# Altium footprint library LED-XTAL.PCBLIB: 105 footprints (part 1 of 7)
Each footprint in its own frame and in the unit in brackets; x right, y up, seen from the top. Pads: shape width x height; smd on the part's side, far side on the other; paste and mask are expansions set on the pad; w line width, h text height; cw(c..) or ccw(c..) is an arc to the next point about the centre after c.
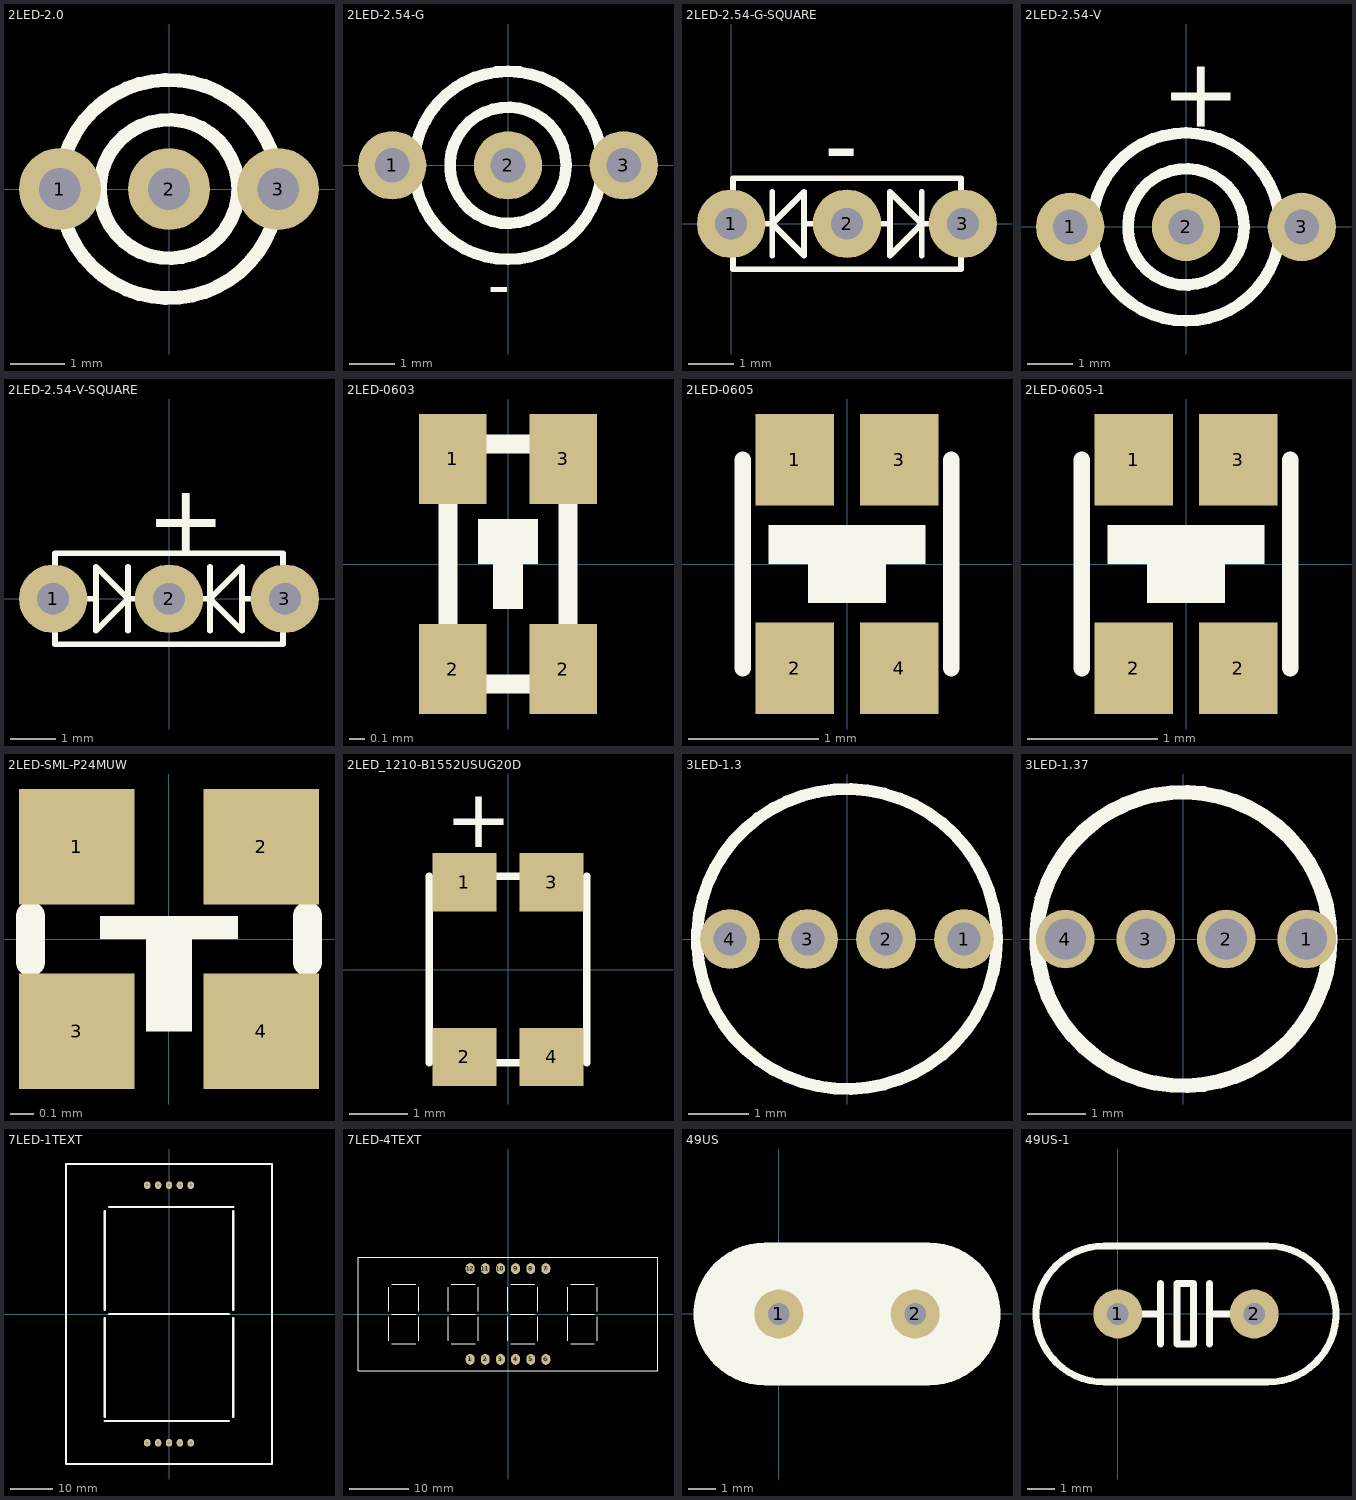
[diagram p0: the footprints below, top view; thin cyan lines are the x and y axes]

## 2LED-2.0 [mm]
pads (3):
  round 1.5 hole 0.762: 1(-2,0) 2(0,0) 3(2,0)
TopOverlay:
  circle w0.254: c0,0 r2
  circle w0.254: c0,0 r1.27
  lines w0.203: -2.54,0 -2.25,0 ; 2.062,0 2.54,0

## 2LED-2.54-G [mm]
pads (3):
  round 1.5 hole 0.762: 1(-2.54,0) 2(0,0) 3(2.54,0)
TopOverlay:
  circle w0.254: c0,0 r1.275
  circle w0.254: c0,0 r2.062
  lines w0.203: -2.54,0 -2.25,0 ; 2.062,0 2.54,0
  text "-" at -0.44,-3.1 h1

## 2LED-2.54-G-SQUARE [mm]
pads (3):
  round 1.5 hole 0.7: 1(0,0) 2(2.54,0) 3(5.08,0)
TopOverlay:
  lines w0.127: 0,0 0.9,0 ; 0.9,-0.7 0.9,0.7 ; 1.6,0 2.54,0 3.48,0 ; 4.18,-0.7 4.18,0.7 ; 5.08,0 4.18,0 ; 0.9,0 1.6,0.7 1.6,-0.7 0.9,0 ; 4.18,0 3.48,0.7 3.48,-0.7 4.18,0 ; 0.04,-1 5.04,-1 5.04,1 0.04,1 0.04,-1
  text "-" at 2.04,1 h1.52

## 2LED-2.54-V [mm]
pads (3):
  round 1.5 hole 0.762: 1(-2.54,0) 2(0,0) 3(2.54,0)
TopOverlay:
  circle w0.254: c0,0 r2.062
  circle w0.254: c0,0 r1.275
  lines w0.203: -2.54,0 -2.25,0 ; 2.062,0 2.54,0
  text "+" at -0.54,2.2 h1.52

## 2LED-2.54-V-SQUARE [mm]
pads (3):
  round 1.5 hole 0.7: 1(-2.54,0) 2(0,0) 3(2.54,0)
TopOverlay:
  lines w0.127: -2.54,0 -1.6,0 ; -0.9,-0.7 -0.9,0.7 ; 0.9,-0.7 0.9,0.7 ; 1.6,0 2.54,0 ; -0.9,0 -1.6,0.7 -1.6,-0.7 -0.9,0 ; -0.9,0 0,0 0.9,0 ; 0.9,0 1.6,0.7 1.6,-0.7 0.9,0 ; -2.5,-1 -2.5,1 2.5,1 2.5,-1 -2.5,-1
  text "+" at -0.5,1 h1.52

## 2LED-0603 [mm] "2LED-0603"
pads (4):
  rect 0.45x0.6 smd: 1(-0.37,0.7) 2(-0.37,-0.7) 2(0.37,-0.7) 3(0.37,0.7)
TopOverlay:
  rectangle: -0.1,-0.3 0.1,0
  rectangle: -0.2,0 0.2,0.3
  lines w0.127: -0.4,-0.8 -0.4,0.8 0.4,0.8 0.4,-0.8 -0.4,-0.8

## 2LED-0605 [mm]
pads (4):
  rect 0.6x0.7 smd: 1(-0.4,0.8) 2(-0.4,-0.8) 3(0.4,0.8) 4(0.4,-0.8)
TopOverlay:
  rectangle: -0.6,0 0.6,0.3
  rectangle: -0.3,-0.3 0.3,0
  lines w0.127: -0.8,-0.8 -0.8,0.8 ; 0.8,-0.8 0.8,0.8

## 2LED-0605-1 [mm]
pads (4):
  rect 0.6x0.7 smd: 1(-0.4,0.8) 2(-0.4,-0.8) 2(0.4,-0.8) 3(0.4,0.8)
TopOverlay:
  rectangle: -0.6,0 0.6,0.3
  rectangle: -0.3,-0.3 0.3,0
  lines w0.127: -0.8,-0.8 -0.8,0.8 ; 0.8,-0.8 0.8,0.8

## 2LED-SML-P24MUW [mm]
pads (4):
  rect 0.5x0.5 smd: 1(-0.4,0.4) 2(0.4,0.4) 3(-0.4,-0.4) 4(0.4,-0.4)
TopOverlay:
  region: -0.1,0 -0.1,-0.4 0.1,-0.4 0.1,0
  region: 0.3,0 0.3,0.1 -0.3,0.1 -0.3,0
  lines w0.127: -0.6,-0.1 -0.6,0.1 ; 0.6,-0.1 0.6,0.1

## 2LED_1210-B1552USUG20D [mm] "2LED_1210-B1552USUG20D"
pads (4):
  rect 1.1x1 smd mask+0.05: 1(-0.75,1.5) 2(-0.75,-1.5) 3(0.75,1.5) 4(0.75,-1.5)
TopOverlay:
  lines w0.127: -1.35,-1.6 -1.35,1.6 ; -0.33,-1.6 0.33,-1.6 ; -0.33,1.6 0.33,1.6 ; 1.35,-1.6 1.35,1.6
  text "+" at -1.075,2.1 h1

## 3LED-1.3 [mm] "3LED-1.3"
pads (4):
  round 1 hole 0.55: 1(1.95,0) 2(0.65,0) 3(-0.65,0) 4(-1.95,0)
TopOverlay:
  circle w0.2: c0,0 r2.5

## 3LED-1.37 [mm] "3LED-1.37"
pads (4):
  round 1 hole 0.7: 1(2.1,0) 2(0.73,0) 3(-0.64,0) 4(-2.01,0)
TopOverlay:
  circle w0.254: c0,0 r2.5

## 7LED-1TEXT [mm]
pads (10):
  oval 1.5x1.8 hole 0.7: 1(-5.08,-30.05) 2(-2.54,-30.05) 3(0,-30.05) 4(2.54,-30.05) 5(5.08,-30.05) 6(5.08,30.05) 7(2.54,30.05) 8(0,30.05) 9(-2.54,30.05) 10(-5.08,30.05)
TopOverlay:
  lines w0.5: -15,-25 14,-25 ; -15,-24 -15,-1 ; -15,1 -15,24 ; -14,0 14,0 ; -14,25 15,25 ; 15,-24 15,-1 ; 15,1 15,24 ; -24,-35 24,-35 24,35 -24,35 -24,-35

## 7LED-4TEXT [mm]
pads (12):
  oval 1.5x1.8 hole 0.7: 1(-6.35,-7.62) 2(-3.81,-7.62) 3(-1.27,-7.62) 4(1.27,-7.62) 5(3.81,-7.62) 6(6.35,-7.62) 7(6.35,7.62) 8(3.81,7.62) 9(1.27,7.62) 10(-1.27,7.62) 11(-3.81,7.62) 12(-6.35,7.62)
TopOverlay:
  lines w0.127: -20,-4.5 -20,-0.5 ; -20,0.5 -20,4.5 ; -19.5,-5 -15.5,-5 ; -19.5,0 -15.5,0 ; -19.5,5 -15.5,5 ; -15,-4.5 -15,-0.5 ; -15,0.5 -15,4.5 ; -10,-4.5 -10,-0.5 ; -10,0.5 -10,4.5 ; -9.5,-5 -5.5,-5 ; -9.5,0 -5.5,0 ; -9.5,5 -5.5,5 ; -5,-4.5 -5,-0.5 ; -5,0.5 -5,4.5 ; 0,-4.5 0,-0.5 ; 0,0.5 0,4.5 ; 0.5,-5 4.5,-5 ; 0.5,0 4.5,0 ; 0.5,5 4.5,5 ; 5,-4.5 5,-0.5 ; 5,0.5 5,4.5 ; 10,-4.5 10,-0.5 ; 10,0.5 10,4.5 ; 10.5,-5 14.5,-5 ; 10.5,0 14.5,0 ; 10.5,5 14.5,5 ; 15,-4.5 15,-0.5 ; 15,0.5 15,4.5
  lines w0.2: -25.15,-9.5 -25.15,9.5 25.15,9.5 25.15,-9.5 -25.15,-9.5

## 49US [mm]
pads (2):
  round 1.8 hole 0.8: 1(0,0) 2(5,0)
TopOverlay:
  circle w2: c5.471,0 r1.529
  circle w2: c-0.546,0.018 r1.524
  rectangle: -1.1,-2.5 6.1,2.5
  lines w0.254: 2.17,-1.092 2.779,-1.092 ; -0.5,-2.5 cw(c-0.5,0) -0.5,2.5 5.5,2.5 cw(c5.5,0) 5.5,-2.5 -0.5,-2.5

## 49US-1 [mm]
pads (2):
  round 1.8 hole 0.8: 1(0,0) 2(5,0)
TopOverlay:
  lines w0.254: 0.265,0 1.56,0 ; 1.56,1.118 1.56,-1.092 ; 3.364,-1.092 3.364,1.118 ; 3.364,0 4.659,0 ; -0.5,-2.5 cw(c-0.5,0) -0.5,2.5 5.5,2.5 cw(c5.5,0) 5.5,-2.5 -0.5,-2.5 ; 2.17,-1.092 2.17,1.118 2.779,1.118 2.779,-1.092 2.17,-1.092
BottomOverlay:
  lines w0.254: 1.259,0 1.538,0 ; 1.538,-1.092 1.538,1.118 ; 3.342,-1.092 3.342,1.118 ; 3.342,0 3.697,0 ; 2.148,-1.092 2.148,1.118 2.758,1.118 2.758,-1.092 2.148,-1.092